# Altium integrated library button smd.IntLib: 1 symbol
Pins are listed as number, name and electrical type; pins without a type are passive.

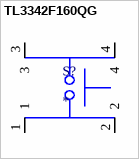
[diagram p0: symbol TL3342F160QG]

## TL3342F160QG
designator S?
SWITCH TACTILE SPST-NO 0.05A 12V; MP: TL3342F160QG; MF: e-switch inc; Price: None; Availability: In Stock; Package: None; Value: *; SnapEDA_Link: https://www.snapeda.com/parts/TL3342F160QG/ITC/view-part/?ref=snap; Purchase-URL: https://pricing.snapeda.com/search/part/TL3342F160QG/?ref=eda; Check_prices: https://www.snapeda.com/parts/TL3342F160QG/ITC/view-part/?ref=eda
footprint SW_TL3342F160QG
pins: 1, 2, 3, 4